# EAGLE library part DS90LV001 (library dan-lvds)
DS90LV001 800Mbps LVDS buffer
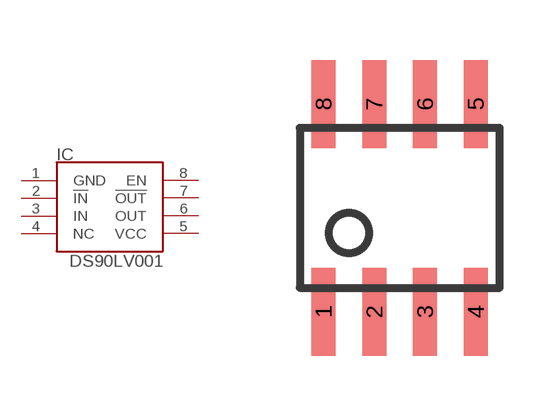
[diagram p0: symbol with the pads of SOIC8; footprint SOIC8]

Designator prefix IC

## DS90LV001TM  [SOIC8]
1  GND  pas
2  !IN  in
3  IN  in
4  NC  nc
5  VCC  pas
6  OUT  out
7  !OUT  out
8  EN  in

## Footprint SOIC8 (pad centres in mm)
SOIC8 From DS90LV001 datasheet: http://cache.national.com/ds/DS/DS90LV001.pdf
smd 0.6 x 2.2: 1 -1.905,-2.6; 2 -0.635,-2.6; 3 0.635,-2.6; 4 1.905,-2.6; 5 1.905,2.6; 6 0.635,2.6; 7 -0.635,2.6; 8 -1.905,2.6